# EAGLE library part TPS63000 (library FaBo-Supply)
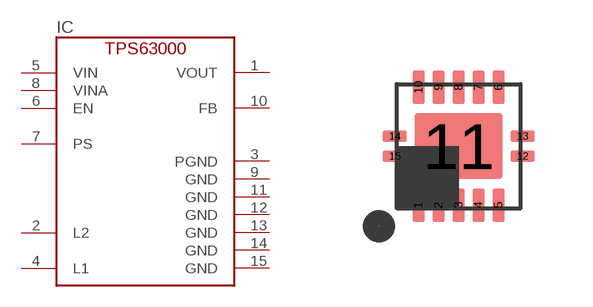
[diagram p4: symbol with the pads of VSON-10; footprint VSON-10]

Designator prefix IC

## TPS63000DRC  [VSON-10]
1  VOUT
2  L2
3  PGND
4  L1
5  VIN
6  EN
7  PS
8  VINA
9  GND
10  FB
11  GND
12  GND
13  GND
14  GND
15  GND

## Footprint VSON-10 (pad centres in mm)
smd 0.3 x 0.85: 1 -1,-1.475; 2 -0.5,-1.475; 3 0,-1.475; 4 0.5,-1.475; 5 1,-1.475; 6 1,1.475; 7 0.5,1.475; 8 0,1.475; 9 -0.5,1.475; 10 -1,1.475
smd 2.2 x 1.65: 11 0,0
smd 0.6 x 0.28: 12 1.6,-0.25; 13 1.6,0.25; 14 -1.6,0.25; 15 -1.6,-0.25